# EAGLE library part IF_RS232_XCVR_MAX3243CDBR (library !GPLIB_ACTIVE)
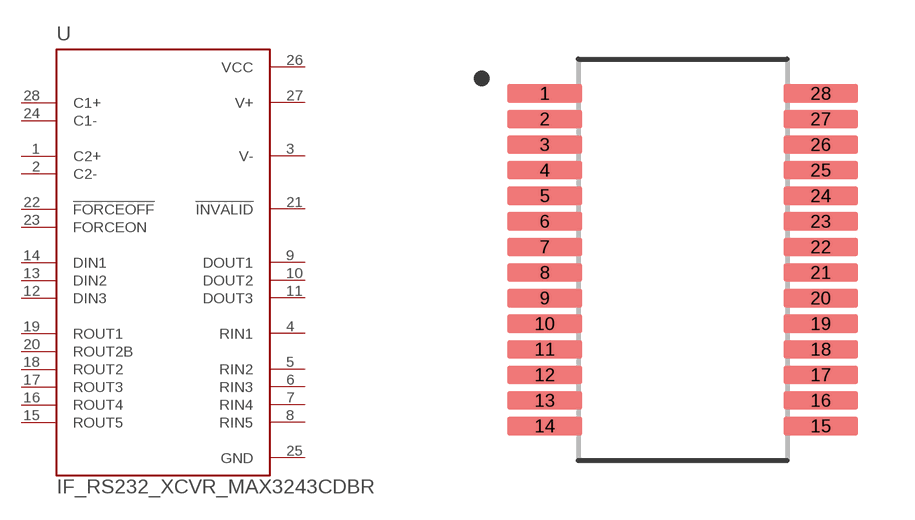
[diagram p119: symbol with the pads of SOP65P780X200-28N; footprint SOP65P780X200-28N]

Designator prefix U

## IF_RS232_XCVR_MAX3243CDBR  [SOP65P780X200-28N]
1  C2+  pas
2  C2-  pas
3  V-  out
4  RIN1  in
5  RIN2  in
6  RIN3  in
7  RIN4  in
8  RIN5  in
9  DOUT1  out
10  DOUT2  out
11  DOUT3  out
12  DIN3  in
13  DIN2  in
14  DIN1  in
15  ROUT5  out
16  ROUT4  out
17  ROUT3  out
18  ROUT2  out
19  ROUT1  out
20  ROUT2B  out
21  !INVALID  out
22  !FORCEOFF  in
23  FORCEON  in
24  C1-  pas
25  GND  pwr
26  VCC  pwr
27  V+  out
28  C1+  pas

## Footprint SOP65P780X200-28N (pad centres in mm)
smd 1.9 x 0.48: 1 -3.505,4.225; 2 -3.505,3.575; 3 -3.505,2.925; 4 -3.505,2.275; 5 -3.505,1.625; 6 -3.505,0.975; 7 -3.505,0.325; 8 -3.505,-0.325; 9 -3.505,-0.975; 10 -3.505,-1.625; 11 -3.505,-2.275; 12 -3.505,-2.925; 13 -3.505,-3.575; 14 -3.505,-4.225; 15 3.505,-4.225; 16 3.505,-3.575; 17 3.505,-2.925; 18 3.505,-2.275; 19 3.505,-1.625; 20 3.505,-0.975; 21 3.505,-0.325; 22 3.505,0.325; 23 3.505,0.975; 24 3.505,1.625; 25 3.505,2.275; 26 3.505,2.925; 27 3.505,3.575; 28 3.505,4.225